# Altium schematic symbol library BTM404.Schlib: 1 symbol
Pins are listed as number, name and electrical type; pins without a type are passive.

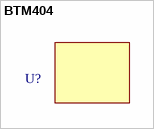
[diagram p0: symbol BTM404]

## BTM404
designator U?